# Altium footprint library KLORlib.PcbLib: 29 footprints (part 1 of 2)
Each footprint in its own frame and in the unit in brackets; x right, y up, seen from the top. Pads: shape width x height; smd on the part's side, far side on the other; paste and mask are expansions set on the pad; w line width, h text height; cw(c..) or ccw(c..) is an arc to the next point about the centre after c.
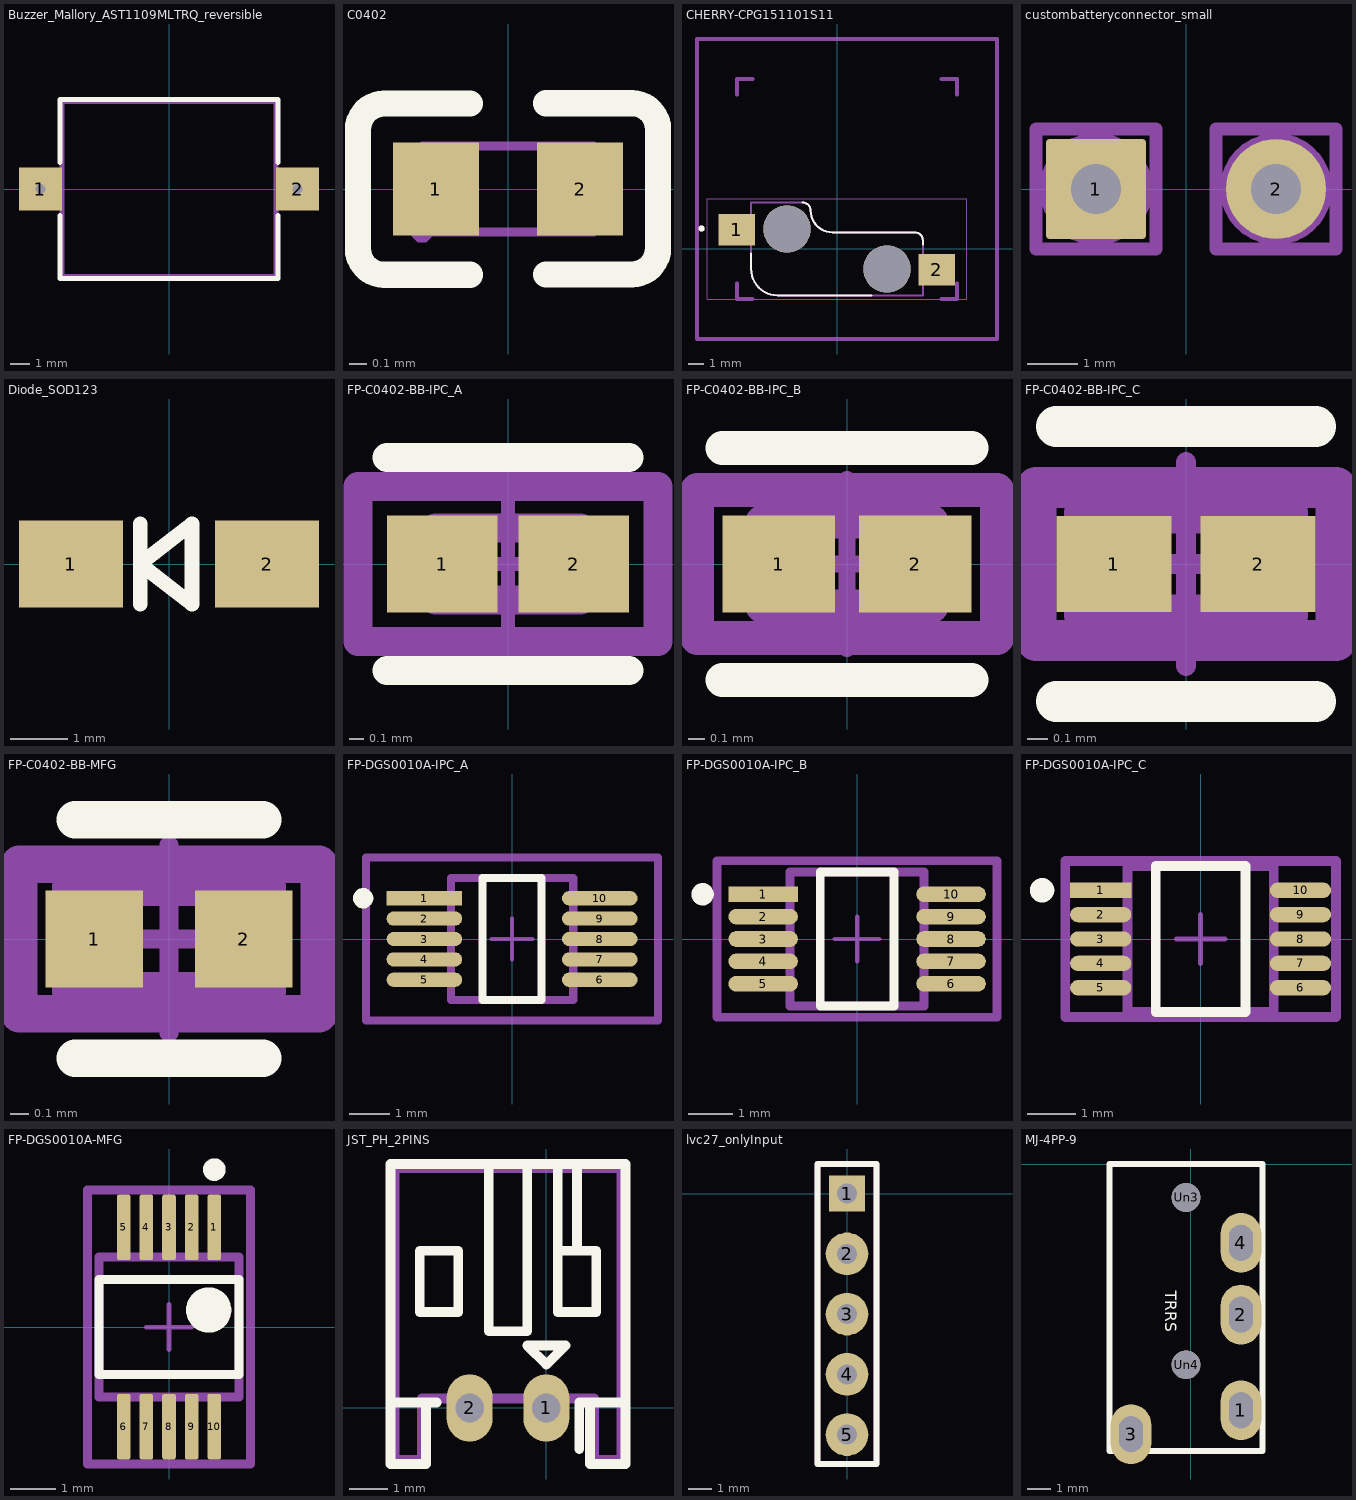
[diagram p0: the footprints below, top view; thin cyan lines are the x and y axes]

## Buzzer_Mallory_AST1109MLTRQ_reversible [mm]
pads (2):
  rect 2.2x2.2 hole 0.5 mask+0: 1(-6.6,0) 2(6.6,0)
Top Overlay:
  lines w0.254: -5.6,-1.35 -5.6,-4.6 5.6,-4.6 5.6,-1.35 ; -5.6,1.35 -5.6,4.6 5.6,4.6 5.6,1.35
Mechanical 19:
  lines w0.254: -5.5,-4.5 5.5,-4.5 5.5,4.5 -5.5,4.5 -5.5,-4.5
  text "'.Designator'" at -0.35,-0.277 h1
3D body "AST1109MLTRQ_MAL.step": height 2.01, standoff 0, extent -7.645,-4.648 7.645,4.648

## C0402 [mm]
pads (2):
  rect 0.5x0.54 smd: 1(-0.42,0) 2(0.42,0)
Top Overlay:
  lines w0.152: -0.221,-0.5 -0.721,-0.5 cw(c-0.721,-0.347) -0.874,-0.347 -0.874,0.345 cw(c-0.721,0.345) -0.721,0.498 -0.221,0.498 ; 0.221,-0.498 0.721,-0.498 ccw(c0.721,-0.345) 0.874,-0.345 0.874,0.347 ccw(c0.721,0.347) 0.721,0.5 0.221,0.5
Top Courtyard:
  region: -0.44,-0.25 -0.44,-0.275 -0.475,-0.31 -0.525,-0.31 -0.56,-0.275 -0.56,-0.25 -0.56,-0.225 -0.525,-0.19 -0.475,-0.19 -0.44,-0.225 -0.44,-0.25
  region: -0.5,-0.25 -0.5,0.25 -0.25,0.25 -0.25,-0.25
  region: 0.5,-0.25 0.5,0.25 0.25,0.25 0.25,-0.25
  lines w0.051: -0.5,-0.25 -0.5,0.25 0.5,0.25 0.5,-0.25 -0.5,-0.25

## CHERRY-CPG151101S11 [mm]
height 1.95
pads (4):
  rect 2.3x2 smd mask+0: 1(-6.365,1.23) 2(6.335,-1.31)
  round 3 hole 3 unplated: ""(-3.175,1.27) ""(3.175,-1.27)
Top Overlay:
  circle w0.2: c-8.6,1.3 r0.1
  lines w0.127: -5.45,-0.3 -5.45,-1.27 ccw(c-3.775,-1.27) -3.775,-2.945 2.175,-2.945 ; -2.175,2.945 cw(c-2.175,2.445) -1.675,2.445 ccw(c-0.285,2.445) -0.285,1.055 4.95,1.055 cw(c4.95,0.555) 5.45,0.555 5.45,0.3
Top 3D Body:
  lines w0.254: -6.365,-2.19 -6.365,-3.19 -5.365,-3.19 ; -6.365,9.81 -6.365,10.81 -5.365,10.81 ; 6.635,-3.19 7.635,-3.19 7.635,-2.19 ; 6.635,10.81 7.635,10.81 7.635,9.81 ; -8.89,-5.715 10.16,-5.715 10.16,13.335 -8.89,13.335 -8.89,-5.715
Mechanical 13:
  circle w0.2: c-8.6,1.3 r0.1
  lines w0.127: -5.45,-1.27 ccw(c-3.775,-1.27) -3.775,-2.945 5.45,-2.945 5.45,0.555 ccw(c4.95,0.555) 4.95,1.055 -0.285,1.055 cw(c-0.285,2.445) -1.675,2.445 ccw(c-2.175,2.445) -2.175,2.945 -5.45,2.945 -5.45,-1.27
Top Courtyard:
  lines w0.05: -8.25,-3.195 8.25,-3.195 8.25,3.195 -8.25,3.195 -8.25,-3.195
3D body "step_temp.STEP": height 1.85, standoff -1.25, extent -7.25,-2.945 7.25,2.945

## custombatteryconnector_small [mm]
pads (2):
  rrect7% 2x2 hole 1 paste-2539.97 mask+0: 1(-1.8,0)
  round 2 hole 1 paste-2539.97 mask+0: 2(1.8,0)
Mechanical 4:
  lines w0.254: -3,-1.2 -3,1.2 -0.6,1.2 -0.6,-1.2 -3,-1.2 ; 0.6,-1.2 0.6,1.2 3,1.2 3,-1.2 0.6,-1.2
Mechanical 19:
  circle w0.254: c-1.8,0 r1
  circle w0.254: c1.8,0 r0.99
  text "'.Designator'" at 0.38,-0.394 h1

## Diode_SOD123 [mm]
pads (2):
  rect 1.8x1.5 smd mask+0: 1(-1.7,0) 2(1.7,0)
Top Overlay:
  lines w0.254: -0.5,0 0.4,-0.7 ; -0.5,0 0.4,0.7 ; -0.5,0 0.4,0.7 ; -0.5,0 0.4,-0.7 ; 0.4,-0.7 0.4,0.7 ; 0.4,-0.7 0.4,0.7 ; -0.5,-0.7 -0.5,0.7 -0.5,-0.7
3D body "SOD-123.step": height 1.2, standoff 0, extent -1.875,-0.85 1.875,0.85

## FP-C0402-BB-IPC_A [mm]
pads (2):
  rect 0.765x0.672 smd paste+0 mask+0: 1(-0.454,0) 2(0.454,0)
Top Overlay:
  lines w0.2: -0.836,-0.736 0.836,-0.736 ; -0.836,0.736 0.836,0.736
Top 3D Body:
  lines w0.2: -0.5,-0.25 0.5,-0.25 0.5,0.25 -0.5,0.25 -0.5,-0.25
Top Assembly:
  lines w0.2: -1.036,-0.536 1.036,-0.536 1.036,0.536 -1.036,0.536 -1.036,-0.536
  text ".Designator" at 0,0.189 h1
Top Courtyard:
  lines w0.2: -1.036,-0.536 1.036,-0.536 1.036,0.536 -1.036,0.536 -1.036,-0.536
Top Component Center:
  lines w0.1: -0.5,0 0.5,0 ; 0,-0.5 0,0.5
3D body "Cap_Kemet_C0402C562J5RACTU_eec.STEP": height 0.25, standoff 0, extent -1.036,-0.536 1.036,0.536

## FP-C0402-BB-IPC_B [mm]
pads (2):
  rect 0.665x0.572 smd paste+0 mask+0: 1(-0.404,0) 2(0.404,0)
Top Overlay:
  lines w0.2: -0.736,-0.686 0.736,-0.686 ; -0.736,0.686 0.736,0.686
Top 3D Body:
  lines w0.2: -0.5,-0.25 -0.5,0.25 0.5,0.25 0.5,-0.25 -0.5,-0.25
Top Assembly:
  lines w0.2: -0.886,-0.436 -0.886,0.436 0.886,0.436 0.886,-0.436 -0.886,-0.436
  text ".Designator" at 0,0.189 h1
Top Courtyard:
  lines w0.2: -0.886,-0.436 -0.886,0.436 0.886,0.436 0.886,-0.436 -0.886,-0.436
Top Component Center:
  lines w0.1: -0.5,0 0.5,0 ; 0,-0.5 0,0.5
3D body "Cap_Kemet_C0402C562J5RACTU_eec.STEP": height 0.25, standoff 0, extent -0.886,-0.436 0.886,0.436

## FP-C0402-BB-IPC_C [mm]
pads (2):
  rect 0.565x0.472 smd paste+0 mask+0: 1(-0.354,0) 2(0.354,0)
Top Overlay:
  lines w0.2: -0.636,-0.675 0.636,-0.675 ; -0.636,0.675 0.636,0.675
Top 3D Body:
  lines w0.2: -0.5,-0.25 -0.5,0.25 0.5,0.25 0.5,-0.25 -0.5,-0.25
Top Assembly:
  lines w0.2: -0.736,-0.375 -0.736,0.375 0.736,0.375 0.736,-0.375 -0.736,-0.375
  text ".Designator" at 0,0.189 h1
Top Courtyard:
  lines w0.2: -0.736,-0.375 -0.736,0.375 0.736,0.375 0.736,-0.375 -0.736,-0.375
Top Component Center:
  lines w0.1: -0.5,0 0.5,0 ; 0,-0.5 0,0.5
3D body "Cap_Kemet_C0402C562J5RACTU_eec.STEP": height 0.25, standoff 0, extent -0.736,-0.375 0.736,0.375

## FP-C0402-BB-MFG [mm]
pads (2):
  rect 0.52x0.52 smd paste+0 mask+0: 1(-0.4,0) 2(0.4,0)
Top Overlay:
  lines w0.2: -0.5,-0.635 0.5,-0.635 ; -0.5,0.635 0.5,0.635
Top 3D Body:
  lines w0.2: -0.525,-0.275 -0.525,0.275 0.525,0.275 0.525,-0.275 -0.525,-0.275
Top Assembly:
  lines w0.2: -0.8,-0.4 -0.8,0.4 0.8,0.4 0.8,-0.4 -0.8,-0.4
  text ".Designator" at 0,0.189 h1
Top Courtyard:
  lines w0.2: -0.8,-0.4 -0.8,0.4 0.8,0.4 0.8,-0.4 -0.8,-0.4
Top Component Center:
  lines w0.1: -0.5,0 0.5,0 ; 0,-0.5 0,0.5
3D body "Cap_Kemet_C0402C562J5RACTU_eec.STEP": height 0.25, standoff 0, extent -0.8,-0.4 0.8,0.4

## FP-DGS0010A-IPC_A [mm]
pads (10):
  rect 1.857x0.35 smd paste+0 mask+0: 1(-2.151,1)
  rrect100% 1.857x0.35 smd paste+0 mask+0: 2(-2.151,0.5) 3(-2.151,0) 4(-2.151,-0.5) 5(-2.151,-1) 6(2.151,-1) 7(2.151,-0.5) 8(2.151,0) 9(2.151,0.5) 10(2.151,1)
Top Overlay:
  circle w0.25: c-3.654,1 r0.125
  lines w0.2: -0.723,-1.5 -0.723,1.5 0.723,1.5 0.723,-1.5 -0.723,-1.5
Top 3D Body:
  lines w0.2: -1.5,-1.5 -1.5,1.5 1.5,1.5 1.5,-1.5 -1.5,-1.5
Top Assembly:
  lines w0.2: -3.579,-2 -3.579,2 3.579,2 3.579,-2 -3.579,-2
  text ".Designator" at 0,0.189 h1
Top Courtyard:
  lines w0.2: -3.579,-2 -3.579,2 3.579,2 3.579,-2 -3.579,-2
Top Component Center:
  lines w0.1: -0.5,0 0.5,0 ; 0,-0.5 0,0.5

## FP-DGS0010A-IPC_B [mm]
pads (10):
  rect 1.557x0.35 smd paste+0 mask+0: 1(-2.101,1)
  rrect100% 1.557x0.35 smd paste+0 mask+0: 2(-2.101,0.5) 3(-2.101,0) 4(-2.101,-0.5) 5(-2.101,-1) 6(2.101,-1) 7(2.101,-0.5) 8(2.101,0) 9(2.101,0.5) 10(2.101,1)
Top Overlay:
  circle w0.25: c-3.454,1 r0.125
  lines w0.2: -0.823,-1.5 -0.823,1.5 0.823,1.5 0.823,-1.5 -0.823,-1.5
Top 3D Body:
  lines w0.2: -1.5,-1.5 -1.5,1.5 1.5,1.5 1.5,-1.5 -1.5,-1.5
Top Assembly:
  lines w0.2: -3.129,-1.75 -3.129,1.75 3.129,1.75 3.129,-1.75 -3.129,-1.75
  text ".Designator" at 0,0.189 h1
Top Courtyard:
  lines w0.2: -3.129,-1.75 -3.129,1.75 3.129,1.75 3.129,-1.75 -3.129,-1.75
Top Component Center:
  lines w0.1: -0.5,0 0.5,0 ; 0,-0.5 0,0.5

## FP-DGS0010A-IPC_C [mm]
pads (10):
  rect 1.257x0.312 smd paste+0 mask+0: 1(-2.051,1)
  rrect100% 1.257x0.312 smd paste+0 mask+0: 2(-2.051,0.5) 3(-2.051,0) 4(-2.051,-0.5) 5(-2.051,-1) 6(2.051,-1) 7(2.051,-0.5) 8(2.051,0) 9(2.051,0.5) 10(2.051,1)
Top Overlay:
  circle w0.25: c-3.254,1 r0.125
  lines w0.2: -0.923,-1.5 0.923,-1.5 0.923,1.5 -0.923,1.5 -0.923,-1.5
Top 3D Body:
  lines w0.2: -1.5,-1.5 1.5,-1.5 1.5,1.5 -1.5,1.5 -1.5,-1.5
Top Assembly:
  lines w0.2: -2.779,-1.6 2.779,-1.6 2.779,1.6 -2.779,1.6 -2.779,-1.6
  text ".Designator" at 0,0.189 h1
Top Courtyard:
  lines w0.2: -2.779,-1.6 2.779,-1.6 2.779,1.6 -2.779,1.6 -2.779,-1.6
Top Component Center:
  lines w0.1: -0.5,0 0.5,0 ; 0,-0.5 0,0.5

## FP-DGS0010A-MFG [mm]
pads (10):
  rrect33% 0.3x1.45 smd paste+0 mask+0: 1(1,2.2) 2(0.5,2.2) 3(0,2.2) 4(-0.5,2.2) 5(-1,2.2) 6(-1,-2.2) 7(-0.5,-2.2) 8(0,-2.2) 9(0.5,-2.2) 10(1,-2.2)
Top Overlay:
  circle w0.5: c0.875,0.375 r0.25
  circle w0.25: c1,3.475 r0.125
  lines w0.2: -1.55,-1.05 -1.55,1.05 1.55,1.05 1.55,-1.05 -1.55,-1.05
Top 3D Body:
  lines w0.2: -1.55,-1.55 -1.55,1.55 1.55,1.55 1.55,-1.55 -1.55,-1.55
Top Assembly:
  lines w0.2: -1.8,-3.025 -1.8,3.025 1.8,3.025 1.8,-3.025 -1.8,-3.025
  text ".Designator" at 0.189,0 h1
Top Courtyard:
  lines w0.2: -1.8,-3.025 -1.8,3.025 1.8,3.025 1.8,-3.025 -1.8,-3.025
Top Component Center:
  lines w0.1: -0.5,0 0.5,0 ; 0,-0.5 0,0.5
3D body "IC_Texas_Instruments_TS5A23159DGSR_eec.STEP": height 0.25, standoff 0, extent -1.8,-3.025 1.8,3.025

## JST_PH_2PINS [mm]
pads (2):
  rrect100% 1.2x1.75 hole 0.75 paste-2539.97 mask+0: 1(0,0) 2(-2,0)
Top Overlay:
  lines w0.254: -4.06,0.14 -3.14,0.14 ; -2.86,0.14 -3.14,0.14 ; -1.5,6.36 -1.5,2 -0.5,2 -0.5,6.36 ; 0.3,6.36 0.3,4.1 ; 0.8,4.1 0.8,6.36 ; 0.86,-1.075 0.86,0.14 1.14,0.14 ; 2.06,0.14 1.14,0.14 ; -3.14,0.14 -3.14,-1.46 -4.06,-1.46 -4.06,6.36 2.06,6.36 2.06,-1.46 1.14,-1.46 1.14,0.14 ; 0.3,4.1 1.3,4.1 1.3,2.5 0.3,2.5 0.3,4.1 ; -3.3,2.5 -2.3,2.5 -2.3,4.1 -3.3,4.1 -3.3,2.5 ; -0.5,1.629 0,1.129 0.5,1.629 -0.5,1.629
Top 3D Body:
  lines w0.254: -3.95,-1.35 -3.25,-1.35 -3.25,0.25 1.25,0.25 1.25,-1.35 1.95,-1.35 1.95,6.25 -3.95,6.25 -3.95,-1.35
3D body "User Library-S2B.STEP": height 4.81, standoff -3.39, extent -3.95,-1.35 1.95,6.25

## lvc27_onlyInput [mm]
pads (5):
  rect 1.524x1.524 hole 0.85 paste-2539.97 mask+0: 1(0,0)
  round 1.8 hole 0.85 paste-2539.97 mask+0: 2(0,-2.54) 3(0,-5.08) 4(0,-7.62) 5(0,-10.16)
Top Overlay:
  lines w0.254: -1.25,-11.4 1.25,-11.4 1.25,1.25 -1.25,1.25 -1.25,-11.4
Bottom Overlay:
  lines w0.254: -1.25,-11.4 -1.25,1.25 1.25,1.25 1.25,-11.4 -1.25,-11.4
Mechanical 3:
  lines w0.254: -1.25,-11.4 -1.25,1.25 1.25,1.25 1.25,-11.4 -1.25,-11.4
Mechanical 4:
  lines w0.254: -1.25,-11.4 1.25,-11.4 1.25,1.25 -1.25,1.25 -1.25,-11.4

## MJ-4PP-9 [mm]
pads (6):
  rrect100% 1.7x2.5 hole 1.5 slot 1 at 0 deg paste-2539.97 mask+0: 1(2.1,-10.3) 2(2.1,-6.3) 3(-2.5,-11.3) 4(2.1,-3.3)
  round 1.2 hole 1.2 paste-2539.97 mask+0: Un3(-0.2,-1.4) Un4(-0.2,-8.4)
Top Overlay:
  lines w0.254: -3.4,-12 3,-12 3,0 -3.4,0 -3.4,-12
  text "TRRS" at -1.232,-5.299 h0.8
3D body "PJ320A.STEP": height 5.01, standoff -2.99, extent -3.213,-11.909 2.832,2.11